# Altium footprint library 0805-1.PcbLib: 1 footprints
Each footprint in its own frame and in the unit in brackets; x right, y up, seen from the top. Pads: shape width x height; smd on the part's side, far side on the other; paste and mask are expansions set on the pad; w line width, h text height; cw(c..) or ccw(c..) is an arc to the next point about the centre after c.
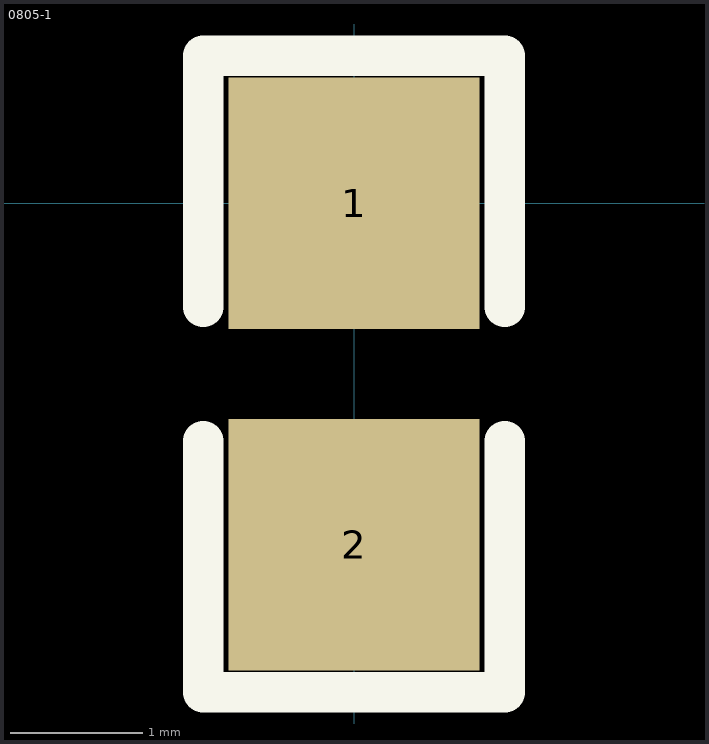
[diagram p0: the footprint, top view; thin cyan lines are the x and y axes]

## 0805-1 [mil]
pads (2):
  rect 75x75 smd: 1(0,0) 2(0,-102)
Top Overlay:
  lines w12: -45,-71 -45,-146 45,-146 45,-71 ; -45,-31 -45,44 45,44 45,-31